# EAGLE library part LTC3260EMSE#PBF (library RescueRunner)
LTC3260,Charge Pump Inverter,MSOP EP-16 Linear Technology LTC3260EMSE#PBF, Charge Pump Inverting 100mA 550 kHz, -4.5 -32 V, 16-Pin, MSOP Source: Datasheet <http://uk.rs-online.com/web/p/products/8516768P>
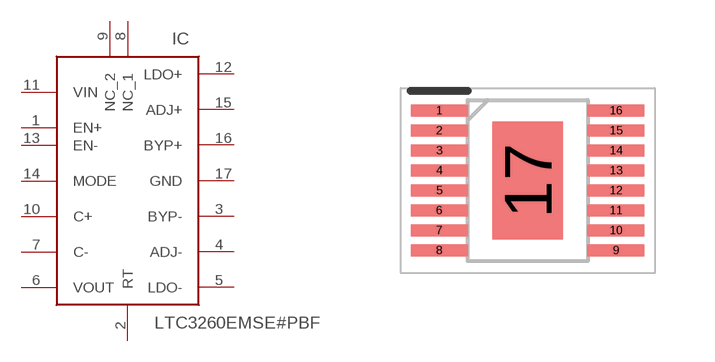
[diagram p25: symbol with the pads of SOP50P490X110-17N; footprint SOP50P490X110-17N]

Designator prefix IC

## LTC3260EMSE#PBF (DESCRIPTION: LTC3260,Charge Pump Inverter,MSOP EP-16 Linear Technology LTC3260EMSE#PBF, Charge Pump Inverting 100mA 550 kHz, -4.5 -32 V, 16-Pin, MSOP; HEIGHT: 1.1mm; MANUFACTURER_NAME: Linear Technology; MANUFACTURER_PART_NUMBER: LTC3260EMSE#PBF; RS_PART_NUMBER: 8516768P; RS_PRICE-STOCK: http://uk.rs-online.com/web/p/products/8516768P)  [SOP50P490X110-17N]
1  EN+  in
2  RT  in
3  BYP-
4  ADJ-  in
5  LDO-  out
6  VOUT  out
7  C-
8  NC_1
9  NC_2
10  C+
11  VIN  pwr
12  LDO+  out
13  EN-  in
14  MODE  in
15  ADJ+  in
16  BYP+
17  GND  pwr

## Footprint SOP50P490X110-17N (pad centres in mm)
16-Lead MSOP
smd 1.425 x 0.3: 1 -2.212,1.75; 2 -2.212,1.25; 3 -2.212,0.75; 4 -2.212,0.25; 5 -2.212,-0.25; 6 -2.212,-0.75; 7 -2.212,-1.25; 8 -2.212,-1.75; 9 2.212,-1.75; 10 2.212,-1.25; 11 2.212,-0.75; 12 2.212,-0.25; 13 2.212,0.25; 14 2.212,0.75; 15 2.212,1.25; 16 2.212,1.75
smd 1.753 x 2.947: 17 0,0